# Altium schematic symbol library WCAP-STSC.SchLib: 7 symbols
Pins are listed as number, name and electrical type; pins without a type are passive.

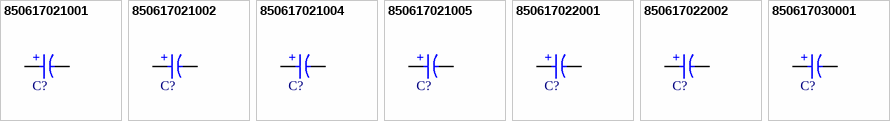
[diagram p0: symbols 850617021001 to 850617030001]

## 850617021001
designator C?, comment 5F  (value not drawn)
WCAP-STSC Supercapacitors (EDLCs), THT, D10 x H20mm, 5F, 2.7VDC; Manufacturer Part Number: 850617021001; Manufacturer: Wurth Elektronik; Capacitance Tolerance: -10% / +30%; Discharge Current Max: 5.4A; Energy Density: 2.41Wh/kg; ESR (AC): 40mΩ; ESR (DC): 50mΩ; Leakage Current: 0.012mA; Pitch: 5mm; Power Density: 17.35kW/kg; Rated Discharge Current: 1.29A; Rated Voltage (DC): 2.7V; Category: Super Capacitors (EDLCs); Match Code: WCAP-STSC; ComponentLink1Description: Website Link; ComponentLink1URL: https://www.we-online.com/redexpert/article/850617021001?ad; ComponentLink2Description: Datasheet Link; ComponentLink2URL: https://www.we-online.com/redexpert/spec/850617021001?ad; Mount: Through Hole; Operating Temperature Max: 65°C; Operating Temperature Min: -40°C; Packaging: Bag; Height: 20mm; Diameter: 10mm; Capacitance: 5F; Life Cycle: 500000Cycles
footprint WCAP-STSC_D10H20
simulation model 850617021001_5F
pins: 1 P, 2 N
text: +

## 850617021002
designator C?, comment 7F  (value not drawn)
WCAP-STSC Supercapacitors (EDLCs), THT, D10 x H20mm, 7F, 2.7VDC; Manufacturer Part Number: 850617021002; Manufacturer: Wurth Elektronik; Capacitance Tolerance: -10% / +30%; Discharge Current Max: 7.1A; Energy Density: 3.3Wh/kg; ESR (AC): 35mΩ; ESR (DC): 45mΩ; Leakage Current: 0.02mA; Pitch: 5mm; Power Density: 18.92kW/kg; Rated Discharge Current: 1.7A; Rated Voltage (DC): 2.7V; Category: Super Capacitors (EDLCs); Match Code: WCAP-STSC; ComponentLink1Description: Website Link; ComponentLink1URL: https://www.we-online.com/redexpert/article/850617021002?ad; ComponentLink2Description: Datasheet Link; ComponentLink2URL: https://www.we-online.com/redexpert/spec/850617021002?ad; Mount: Through Hole; Operating Temperature Max: 65°C; Operating Temperature Min: -40°C; Packaging: Bag; Height: 20mm; Diameter: 10mm; Capacitance: 7F; Life Cycle: 500000Cycles
footprint WCAP-STSC_D10H20
simulation model 850617021002_7F
pins: 1 P, 2 N
text: +

## 850617021004
designator C?, comment 10F  (value not drawn)
WCAP-STSC Supercapacitors (EDLCs), THT, D10 x H25mm, 10F, 2.7VDC; Manufacturer Part Number: 850617021004; Manufacturer: Wurth Elektronik; Capacitance Tolerance: -10% / +30%; Discharge Current Max: 10A; Energy Density: 3.7Wh/kg; ESR (AC): 30mΩ; ESR (DC): 35mΩ; Leakage Current: 0.03mA; Pitch: 5mm; Power Density: 19.1kW/kg; Rated Discharge Current: 2.5A; Rated Voltage (DC): 2.7V; Category: Super Capacitors (EDLCs); Match Code: WCAP-STSC; ComponentLink1Description: Website Link; ComponentLink1URL: https://www.we-online.com/redexpert/article/850617021004?ad; ComponentLink2Description: Datasheet Link; ComponentLink2URL: https://www.we-online.com/redexpert/spec/850617021004?ad; Mount: Through Hole; Operating Temperature Max: 65°C; Operating Temperature Min: -40°C; Packaging: Bag; Height: 25mm; Diameter: 10mm; Capacitance: 10F; Life Cycle: 500000Cycles
footprint WCAP-STSC_D10H25
simulation model 850617021004_10F
pins: 1 P, 2 N
text: +

## 850617021005
designator C?, comment 15F  (value not drawn)
WCAP-STSC Supercapacitors (EDLCs), THT, D13 x H25mm, 15F, 2.7VDC; Manufacturer Part Number: 850617021005; Manufacturer: Wurth Elektronik; Capacitance Tolerance: -10% / +30%; Discharge Current Max: 13.5A; Energy Density: 3.3Wh/kg; ESR (AC): 30mΩ; ESR (DC): 33mΩ; Leakage Current: 0.06mA; Pitch: 5mm; Power Density: 12.27kW/kg; Rated Discharge Current: 3.6A; Rated Voltage (DC): 2.7V; Category: Super Capacitors (EDLCs); Match Code: WCAP-STSC; ComponentLink1Description: Website Link; ComponentLink1URL: https://www.we-online.com/redexpert/article/850617021005?ad; ComponentLink2Description: Datasheet Link; ComponentLink2URL: https://www.we-online.com/redexpert/spec/850617021005?ad; Mount: Through Hole; Operating Temperature Max: 65°C; Operating Temperature Min: -40°C; Packaging: Bag; Height: 25mm; Diameter: 13mm; Capacitance: 15F; Life Cycle: 500000Cycles
footprint WCAP-STSC_D13H25
simulation model 850617021005_15F
pins: 1 P, 2 N
text: +

## 850617022001
designator C?, comment 25F  (value not drawn)
WCAP-STSC Supercapacitors (EDLCs), THT, D16 x H25mm, 25F, 2.7VDC; Manufacturer Part Number: 850617022001; Manufacturer: Wurth Elektronik; Capacitance Tolerance: -10% / +30%; Discharge Current Max: 20.7A; Energy Density: 3.7Wh/kg; ESR (AC): 20mΩ; ESR (DC): 25mΩ; Leakage Current: 0.068mA; Pitch: 7.5mm; Power Density: 10.72kW/kg; Rated Discharge Current: 6A; Rated Voltage (DC): 2.7V; Category: Super Capacitors (EDLCs); Match Code: WCAP-STSC; ComponentLink1Description: Website Link; ComponentLink1URL: https://www.we-online.com/redexpert/article/850617022001?ad; ComponentLink2Description: Datasheet Link; ComponentLink2URL: https://www.we-online.com/redexpert/spec/850617022001?ad; Mount: Through Hole; Operating Temperature Max: 65°C; Operating Temperature Min: -40°C; Packaging: Bag; Height: 25mm; Diameter: 16mm; Capacitance: 25F; Life Cycle: 500000Cycles
footprint WCAP-STSC_D16H25
simulation model 850617022001_25F
pins: 1 P, 2 N
text: +

## 850617022002
designator C?, comment 50F  (value not drawn)
WCAP-STSC Supercapacitors (EDLCs), THT, D18 x H40mm, 50F, 2.7VDC; Manufacturer Part Number: 850617022002; Manufacturer: Wurth Elektronik; Capacitance Tolerance: -10% / +30%; Discharge Current Max: 33.7A; Energy Density: 4.5Wh/kg; ESR (AC): 15mΩ; ESR (DC): 20mΩ; Leakage Current: 0.105mA; Pitch: 7.5mm; Power Density: 8.13kW/kg; Rated Discharge Current: 11.2A; Rated Voltage (DC): 2.7V; Category: Super Capacitors (EDLCs); Match Code: WCAP-STSC; ComponentLink1Description: Website Link; ComponentLink1URL: https://www.we-online.com/redexpert/article/850617022002?ad; ComponentLink2Description: Datasheet Link; ComponentLink2URL: https://www.we-online.com/redexpert/spec/850617022002?ad; Mount: Through Hole; Operating Temperature Max: 65°C; Operating Temperature Min: -40°C; Packaging: Bag; Height: 40mm; Diameter: 18mm; Capacitance: 50F; Life Cycle: 500000Cycles
footprint WCAP-STSC_D18H40
simulation model 850617022002_50F
pins: 1 P, 2 N
text: +

## 850617030001
designator C?, comment 3F  (value not drawn)
WCAP-STSC Supercapacitors (EDLCs), THT, D8 x H20mm, 3F, 2.7VDC; Manufacturer Part Number: 850617030001; Manufacturer: Wurth Elektronik; Capacitance Tolerance: -10% / +30%; Discharge Current Max: 3.3A; Energy Density: 2.1Wh/kg; ESR (AC): 60mΩ; ESR (DC): 70mΩ; Leakage Current: 0.008mA; Pitch: 3.5mm; Power Density: 18.08kW/kg; Rated Discharge Current: 0.7A; Rated Voltage (DC): 2.7V; Category: Super Capacitors (EDLCs); Match Code: WCAP-STSC; ComponentLink1Description: Website Link; ComponentLink1URL: https://www.we-online.com/redexpert/article/850617030001?ad; ComponentLink2Description: Datasheet Link; ComponentLink2URL: https://www.we-online.com/redexpert/spec/850617030001?ad; Mount: Through Hole; Operating Temperature Max: 65°C; Operating Temperature Min: -40°C; Packaging: Bag; Height: 20mm; Diameter: 8mm; Capacitance: 3F; Life Cycle: 500000Cycles
footprint WCAP-STSC_D8H20
simulation model 850617030001_3F
pins: 1 P, 2 N
text: +